# EAGLE library part BQ27510-G2_DRZ_12 (library Micro2)
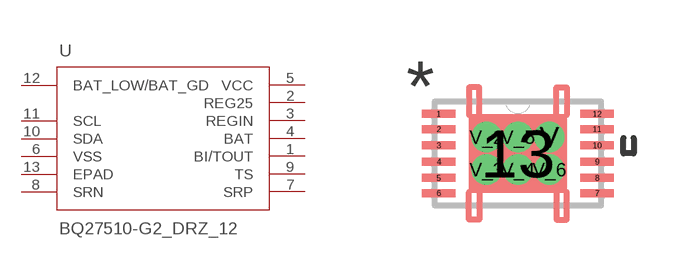
[diagram p3: symbol with the pads of DRZ12_1P95X2P45; footprint DRZ12_1P95X2P45]

Designator prefix U

## BQ27510-G2_DRZ_12 (DATASHEETURL: http://www.ti.com/lit/gpn/BQ27510-G2; DESCRIPTION: System-Side Impedance-Track Fuel Gauge With Direct Battery Connection; FAMILY_NAME: BATTERY FUEL GAUGE; GENERIC_PART_NUMBER: BQ27510-G2; INDUSTRY_STD_PKG_TYPE: SON; MANUFACTURER: Texas Instruments; PACKAGE_DESIGNATOR: DRZ; PIN_COUNT: 12)  [DRZ12_1P95X2P45]
1  BI/TOUT
2  REG25  pwr
3  REGIN  pwr
4  BAT  in
5  VCC  pwr
6  VSS  pwr
7  SRP  in
8  SRN  in
9  TS  in
10  SDA
11  SCL  in
12  BAT_LOW/BAT_GD  out
13  EPAD  pwr

## Footprint DRZ12_1P95X2P45 (pad centres in mm)
smd 0.838 x 0.203: 1 -1.981,0.991; 2 -1.981,0.61; 3 -1.981,0.203; 4 -1.981,-0.203; 5 -1.981,-0.61; 6 -1.981,-0.991; 7 1.981,-0.991; 8 1.981,-0.61; 9 1.981,-0.203; 10 1.981,0.203; 11 1.981,0.61; 12 1.981,0.991
smd 2.438 x 1.956: 13 0,0
drill 0.254: V 0.787,0.406; V_2 -0.787,0.406; V_3 -0.787,-0.406; V_4 0,-0.406; V_5 0,0.406; V_6 0.787,-0.406